# Altium footprint library ST5-10-1.00-L-D-P-TR.PcbLib: 1 footprints
Each footprint in its own frame and in the unit in brackets; x right, y up, seen from the top. Pads: shape width x height; smd on the part's side, far side on the other; paste and mask are expansions set on the pad; w line width, h text height; cw(c..) or ccw(c..) is an arc to the next point about the centre after c.
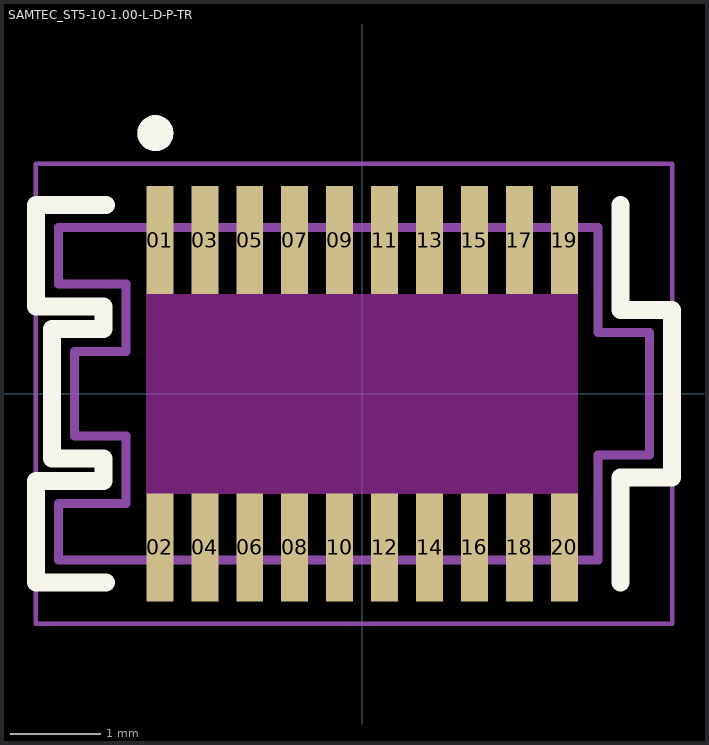
[diagram p0: the footprint, top view; thin cyan lines are the x and y axes]

## SAMTEC_ST5-10-1.00-L-D-P-TR [mm]
pads (20):
  rect 0.3x1.2 smd: 01(-2.25,1.71) 02(-2.25,-1.71) 03(-1.75,1.71) 04(-1.75,-1.71) 05(-1.25,1.71) 06(-1.25,-1.71) 07(-0.75,1.71) 08(-0.75,-1.71) 09(-0.25,1.71) 10(-0.25,-1.71) 11(0.25,1.71) 12(0.25,-1.71) 13(0.75,1.71) 14(0.75,-1.71) 15(1.25,1.71) 16(1.25,-1.71) 17(1.75,1.71) 18(1.75,-1.71) 19(2.25,1.71) 20(2.25,-1.71)
Top Overlay:
  circle w0.2: c-2.3,2.9 r0.1
  lines w0.2: -2.85,-2.1 -3.63,-2.1 -3.63,-0.97 -2.875,-0.97 -2.875,-0.72 -3.45,-0.72 -3.45,0.72 -2.875,0.72 -2.875,0.97 -3.63,0.97 -3.63,2.1 -2.85,2.1 ; 2.875,-2.1 2.875,-0.93 3.45,-0.93 3.45,0.93 2.875,0.93 2.875,2.1
Keep-Out Layer:
  region: 2.4,-1.11 -2.4,-1.11 -2.4,1.11 2.4,1.11
Mechanical 13:
  circle w0.2: c-2.3,2.9 r0.1
  lines w0.1: -3.38,-1.85 -3.38,-1.22 -2.625,-1.22 -2.625,-0.47 -3.2,-0.47 -3.2,0.47 -2.625,0.47 -2.625,1.22 -3.38,1.22 -3.38,1.85 2.625,1.85 2.625,0.68 3.2,0.68 3.2,-0.68 2.625,-0.68 2.625,-1.85 -3.38,-1.85
Mechanical 15:
  lines w0.05: -3.63,-2.56 -3.63,2.56 3.45,2.56 3.45,-2.56 -3.63,-2.56
3D body "ST5-10-1.00-L-D-P-TR.stp": height 3.38, standoff -0.2, extent -3.38,-2 3.2,2